# Altium schematic symbol library BigChips.SchLib: 34 symbols (part 2 of 2)
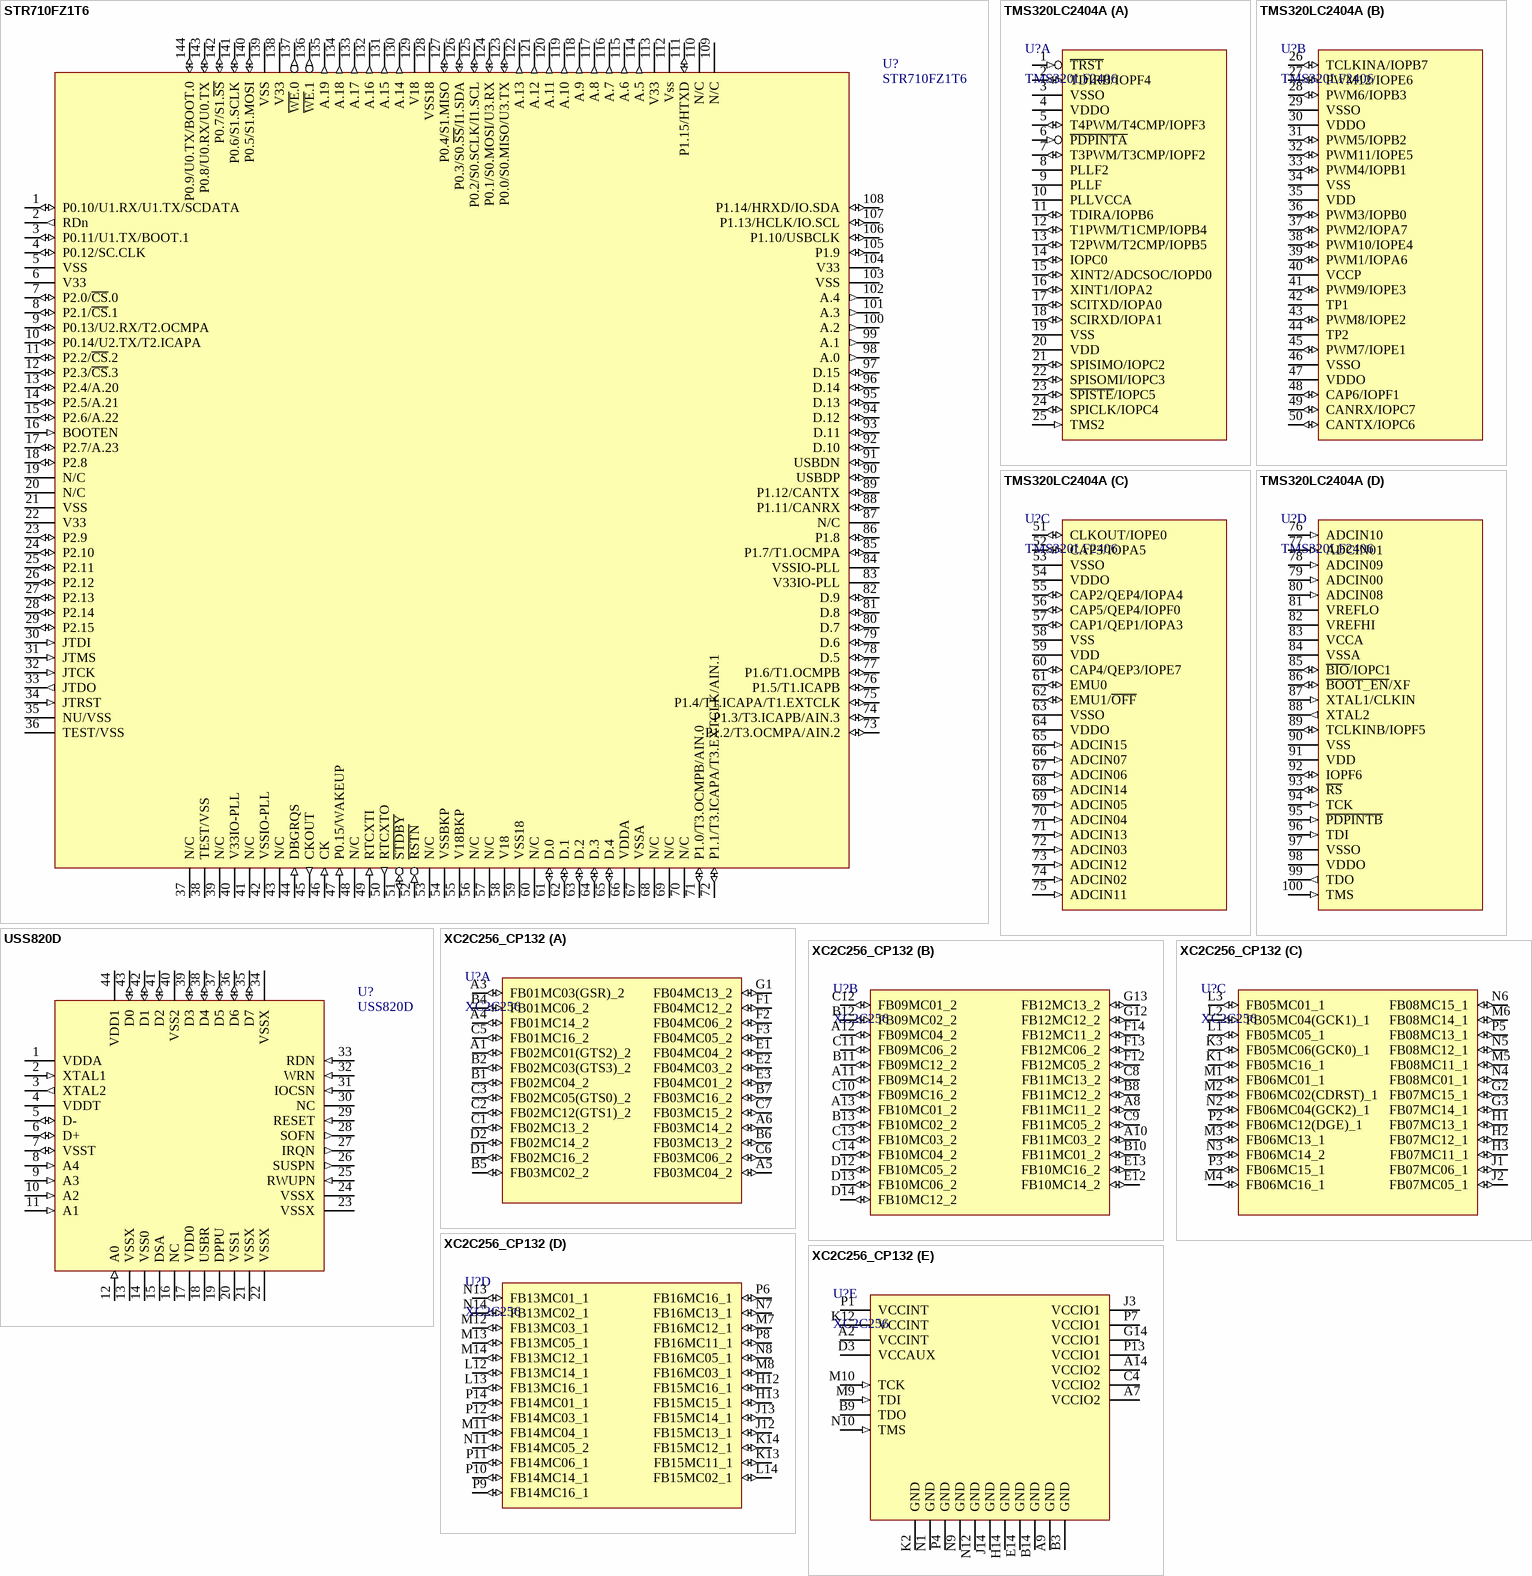
[diagram p7: symbols STR710FZ1T6 to XC2C256_CP132]

## XC2C256_CP132
designator U?, comment XC2C256
PARTNO: ????; VALUE: XC2C256; DK: ????
footprint BGA132 (Footprint not found)
part A pins: A1 FB02MC01(GTS2)_2 (io), A3 FB01MC03(GSR)_2 (io), A4 FB01MC14_2 (io), A5 FB03MC04_2 (io), A6 FB03MC14_2 (io), B1 FB02MC04_2 (io), B2 FB02MC03(GTS3)_2 (io), B4 FB01MC06_2 (io), B5 FB03MC02_2 (io), B6 FB03MC13_2 (io), B7 FB03MC16_2 (io), C1 FB02MC13_2 (io), C2 FB02MC12(GTS1)_2 (io), C3 FB02MC05(GTS0)_2 (io), C5 FB01MC16_2 (io), C6 FB03MC06_2 (io), C7 FB03MC15_2 (io), D1 FB02MC16_2 (io), D2 FB02MC14_2 (io), E1 FB04MC04_2 (io), E2 FB04MC03_2 (io), E3 FB04MC01_2 (io), F1 FB04MC12_2 (io), F2 FB04MC06_2 (io), F3 FB04MC05_2 (io), G1 FB04MC13_2 (io)
part B pins: A8 FB11MC11_2 (io), A10 FB11MC03_2 (io), A11 FB09MC14_2 (io), A12 FB09MC04_2 (io), A13 FB10MC01_2 (io), B8 FB11MC12_2 (io), B10 FB11MC01_2 (io), B11 FB09MC12_2 (io), B12 FB09MC02_2 (io), B13 FB10MC02_2 (io), C8 FB11MC13_2 (io), C9 FB11MC05_2 (io), C10 FB09MC16_2 (io), C11 FB09MC06_2 (io), C12 FB09MC01_2 (io), C13 FB10MC03_2 (io), C14 FB10MC04_2 (io), D12 FB10MC05_2 (io), D13 FB10MC06_2 (io), D14 FB10MC12_2 (io), E12 FB10MC14_2 (io), E13 FB10MC16_2 (io), F12 FB12MC05_2 (io), F13 FB12MC06_2 (io), F14 FB12MC11_2 (io), G12 FB12MC12_2 (io), G13 FB12MC13_2 (io)
part C pins: G2 FB07MC15_1 (io), G3 FB07MC14_1 (io), H1 FB07MC13_1 (io), H2 FB07MC12_1 (io), H3 FB07MC11_1 (io), J1 FB07MC06_1 (io), J2 FB07MC05_1 (io), K1 FB05MC16_1 (io), K3 FB05MC06(GCK0)_1 (io), L1 FB05MC05_1 (io), L2 FB05MC04(GCK1)_1 (io), L3 FB05MC01_1 (io), M1 FB06MC01_1 (io), M2 FB06MC02(CDRST)_1 (io), M3 FB06MC13_1 (io), M4 FB06MC16_1 (io), M5 FB08MC11_1 (io), M6 FB08MC14_1 (io), N2 FB06MC04(GCK2)_1 (io), N3 FB06MC14_2 (io), N4 FB08MC01_1 (io), N5 FB08MC12_1 (io), N6 FB08MC15_1 (io), P2 FB06MC12(DGE)_1 (io), P3 FB06MC15_1 (io), P5 FB08MC13_1 (io)
part D pins: H12 FB15MC16_1 (io), H13 FB15MC15_1 (io), J12 FB15MC13_1 (io), J13 FB15MC14_1 (io), K13 FB15MC11_1 (io), K14 FB15MC12_1 (io), L12 FB13MC14_1 (io), L13 FB13MC16_1 (io), L14 FB15MC02_1 (io), M7 FB16MC12_1 (io), M8 FB16MC03_1 (io), M11 FB14MC04_1 (io), M12 FB13MC03_1 (io), M13 FB13MC05_1 (io), M14 FB13MC12_1 (io), N7 FB16MC13_1 (io), N8 FB16MC05_1 (io), N11 FB14MC05_2 (io), N13 FB13MC01_1 (io), N14 FB13MC02_1 (io), P6 FB16MC16_1 (io), P8 FB16MC11_1 (io), P9 FB14MC16_1 (io), P10 FB14MC14_1 (io), P11 FB14MC06_1 (io), P12 FB14MC03_1 (io), P14 FB14MC01_1 (io)
part E pins: A2 VCCINT (power), A7 VCCIO2 (power), A9 GND (power), A14 VCCIO2 (power), B3 GND (power), B9 TDO (oc), B14 GND (power), C4 VCCIO2 (power), D3 VCCAUX (power), E14 GND (power), G14 VCCIO1 (power), H14 GND (power), J3 VCCIO1 (power), J14 GND (power), K2 GND (power), K12 VCCINT (power), M9 TDI (in), M10 TCK (in), N1 GND (power), N9 GND (power), N10 TMS (in), N12 GND (power), P1 VCCINT (power), P4 GND (power), P7 VCCIO1 (power), P13 VCCIO1 (power)